# Altium schematic symbol library Interface_Expansion.SchLib: 67 symbols
Pins are listed as number, name and electrical type; pins without a type are passive.

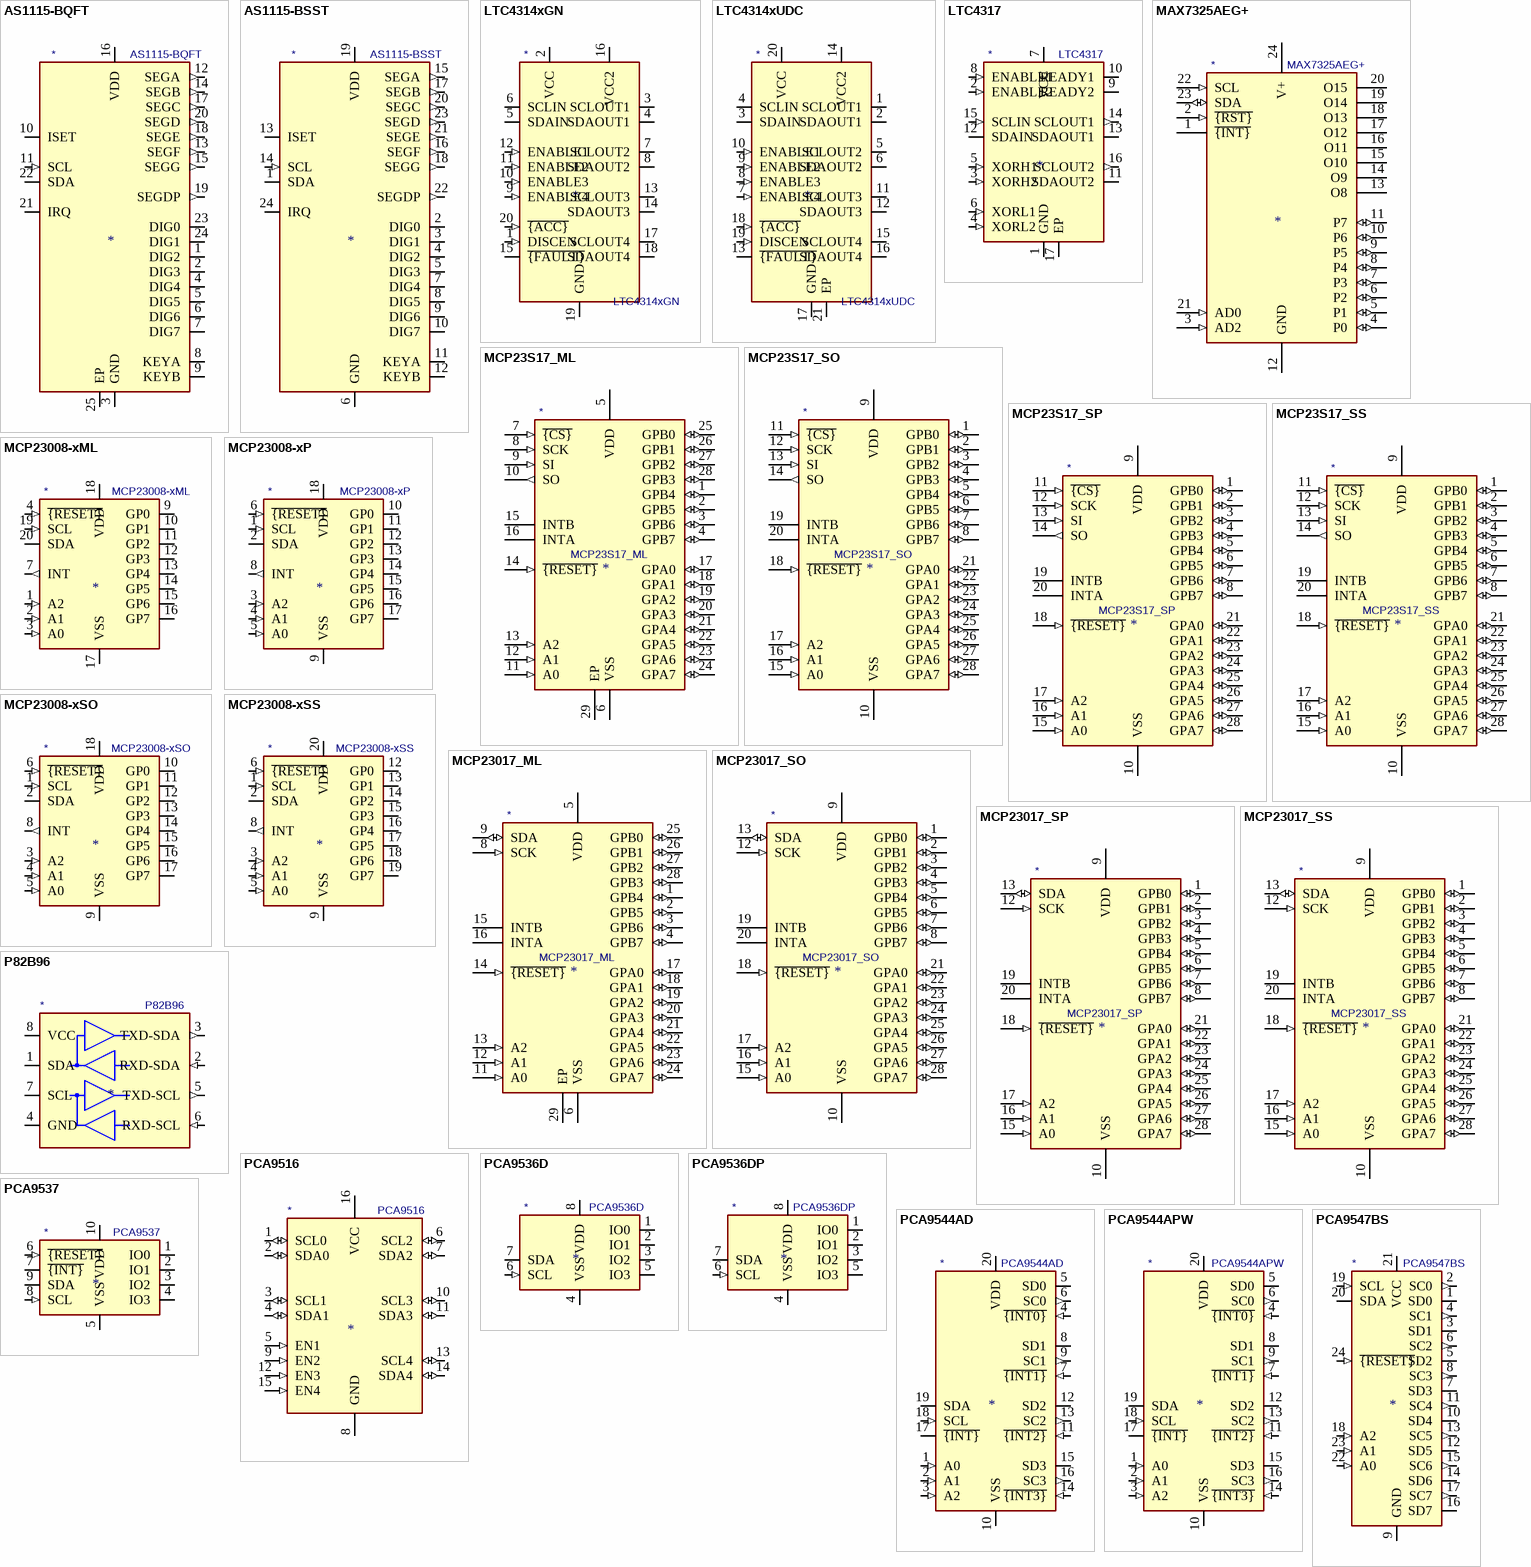
[diagram p0: symbols AS1115-BQFT to PCA9547BS]

## AS1115-BQFT
designator *  value AS1115-BQFT
ki_keywords: led driver i2c; ki_description: 64 LEDs, I2C Interfaced LED Driver with Keyscan, TQFN-24; ki_fp_filters: TQFN*1EP*4x4mm*P0.5mm*PullBack*; Footprint: Package_DFN_QFN:TQFN-24-1EP_4x4mm_P0.5mm_EP2.8x2.8mm_PullBack_ThermalVias; Supplier: https://ams.com/documents/20143/36005/AS1115_DS000206_1-00.pdf/3d3e6d35-b184-1329-adf9-2d769eb2404f
footprint TQFN-24-1EP_4x4mm_P0.5mm_EP2.8x2.8mm_PullBack_ThermalVias
pins: 1 DIG2 (oc), 2 DIG3 (oc), 3 GND (power), 4 DIG4 (oc), 5 DIG5 (oc), 6 DIG6 (oc), 7 DIG7 (oc), 8 KEYA (oc), 9 KEYB (oc), 10 ISET, 11 SCL (in), 12 SEGA (out), 13 SEGF (out), 14 SEGB (out), 15 SEGG (out), 16 VDD (power), 17 SEGC (out), 18 SEGE (out), 19 SEGDP (out), 20 SEGD (out), 21 IRQ (oc), 22 SDA (io), 23 DIG0 (oc), 24 DIG1 (oc), 25 EP

## AS1115-BSST
designator *  value AS1115-BSST
ki_keywords: led driver i2c; ki_description: 64 LEDs, I2C Interfaced LED Driver with Keyscan, QSOP-24; ki_fp_filters: QSOP*3.9x8.7m*P0.635mm*; Footprint: Package_SO:QSOP-24_3.9x8.7mm_P0.635mm; Supplier: https://ams.com/documents/20143/36005/AS1115_DS000206_1-00.pdf/3d3e6d35-b184-1329-adf9-2d769eb2404f
footprint QSOP-24_3.9x8.7mm_P0.635mm
pins: 1 SDA (io), 2 DIG0 (oc), 3 DIG1 (oc), 4 DIG2 (oc), 5 DIG3 (oc), 6 GND (power), 7 DIG4 (oc), 8 DIG5 (oc), 9 DIG6 (oc), 10 DIG7 (oc), 11 KEYA (oc), 12 KEYB (oc), 13 ISET, 14 SCL (in), 15 SEGA (out), 16 SEGF (out), 17 SEGB (out), 18 SEGG (out), 19 VDD (power), 20 SEGC (out), 21 SEGE (out), 22 SEGDP (out), 23 SEGD (out), 24 IRQ (oc)

## LTC4314xGN
designator *  value LTC4314xGN
ki_keywords: I2C Multiplexer Buffer Level Shifter; ki_description: Pin-Selectable, 4-Channel, 2-Wire Multiplexer with Bus Buffers, SSOP-20; ki_fp_filters: SSOP*3.9x8.7mm*P0.635mm*; Footprint: Package_SO:SSOP-20_3.9x8.7mm_P0.635mm; Supplier: https://www.analog.com/media/en/technical-documentation/data-sheets/4314f.pdf
footprint SSOP-20_3.9x8.7mm_P0.635mm
pins: 1 DISCEN (in), 2 VCC (power), 3 SCLOUT1 (io), 4 SDAOUT1 (io), 5 SDAIN (io), 6 SCLIN (io), 7 SCLOUT2 (io), 8 SDAOUT2 (io), 9 ENABLE4 (in), 10 ENABLE3 (in), 11 ENABLE2 (in), 12 ENABLE1 (in), 13 SCLOUT3 (io), 14 SDAOUT3 (io), 15 ~{{FAULT}} (oc), 16 VCC2 (power), 17 SCLOUT4 (io), 18 SDAOUT4 (io), 19 GND (power), 20 ~{{ACC}} (in)

## LTC4314xUDC
designator *  value LTC4314xUDC
ki_keywords: I2C Multiplexer Buffer Level Shifter; ki_description: Pin-Selectable, 4-Channel, 2-Wire Multiplexer with Bus Buffers, QFN-20; ki_fp_filters: QFN*1EP*3x4mm*P0.5mm*; Footprint: Package_DFN_QFN:QFN-20-1EP_3x4mm_P0.5mm_EP1.65x2.65mm; Supplier: https://www.analog.com/media/en/technical-documentation/data-sheets/4314f.pdf
footprint QFN-20-1EP_3x4mm_P0.5mm_EP1.65x2.65mm
pins: 1 SCLOUT1 (io), 2 SDAOUT1 (io), 3 SDAIN (io), 4 SCLIN (io), 5 SCLOUT2 (io), 6 SDAOUT2 (io), 7 ENABLE4 (in), 8 ENABLE3 (in), 9 ENABLE2 (in), 10 ENABLE1 (in), 11 SCLOUT3 (io), 12 SDAOUT3 (io), 13 ~{{FAULT}} (oc), 14 VCC2 (power), 15 SCLOUT4 (io), 16 SDAOUT4 (io), 17 GND (power), 18 ~{{ACC}} (in), 19 DISCEN (in), 20 VCC (power), 21 EP

## LTC4317
designator *  value LTC4317
ki_keywords: I2C Translator 4kV-ESD Level-Shifter Hot-Swap; ki_description: Dual I2C/SMBus Address-Translator, DFN-16; ki_fp_filters: DFN*1EP*3x5mm*P0.5mm*; Footprint: Package_DFN_QFN:DFN-16-1EP_3x5mm_P0.5mm_EP1.66x4.4mm; Supplier: https://www.analog.com/media/en/technical-documentation/data-sheets/4317fa.pdf
footprint DFN-16-1EP_3x5mm_P0.5mm_EP1.66x4.4mm
pins: 1 GND (power), 2 ENABLE2 (in), 3 XORH2 (in), 4 XORL2 (in), 5 XORH1 (in), 6 XORL1 (in), 7 VCC (power), 8 ENABLE1 (in), 9 READY2 (oc), 10 READY1 (oc), 11 SDAOUT2 (io), 12 SDAIN (io), 13 SDAOUT1 (io), 14 SCLOUT1 (out), 15 SCLIN (in), 16 SCLOUT2 (out), 17 EP

## MAX7325AEG+
designator *  value MAX7325AEG+
ki_keywords: Expander I2C Parallel Port GPIO Maxim; ki_description: I2C Port Expander with 8 Push-Pull and 8 Open-Drain I/Os, QSOP-24; ki_fp_filters: QSOP*3.9x8.7*P0.635mm*; Footprint: Package_SO:QSOP-24_3.9x8.7mm_P0.635mm; Supplier: https://datasheets.maximintegrated.com/en/ds/MAX7325.pdf
footprint QSOP-24_3.9x8.7mm_P0.635mm
pins: 1 ~{{INT}} (oc), 2 ~{{RST}} (in), 3 AD2 (in), 4 P0 (io), 5 P1 (io), 6 P2 (io), 7 P3 (io), 8 P4 (io), 9 P5 (io), 10 P6 (io), 11 P7 (io), 12 GND (power), 13 O8 (oc), 14 O9 (oc), 15 O10 (oc), 16 O11 (oc), 17 O12 (oc), 18 O13 (oc), 19 O14 (oc), 20 O15 (oc), 21 AD0 (in), 22 SCL (in), 23 SDA (io), 24 V+ (power)

## MCP23S17_ML
designator *  value MCP23S17_ML
ki_keywords: SPI parallel port expander; ki_description: 16-bit I/O expander, SPI, interrupts, w pull-ups, QFN-28; ki_fp_filters: QFN*6x6mm*P0.65mm*; Footprint: Package_DFN_QFN:QFN-28-1EP_6x6mm_P0.65mm_EP4.25x4.25mm; Supplier: http://ww1.microchip.com/downloads/en/DeviceDoc/20001952C.pdf
footprint QFN-28-1EP_6x6mm_P0.65mm_EP4.25x4.25mm
pins: 1 GPB4 (io), 2 GPB5 (io), 3 GPB6 (io), 4 GPB7 (io), 5 VDD (power), 6 VSS (power), 7 ~{{CS}} (in), 8 SCK (in), 9 SI (in), 10 SO (out), 11 A0 (in), 12 A1 (in), 13 A2 (in), 14 ~{{RESET}} (in), 15 INTB (hiz), 16 INTA (hiz), 17 GPA0 (io), 18 GPA1 (io), 19 GPA2 (io), 20 GPA3 (io), 21 GPA4 (io), 22 GPA5 (io), 23 GPA6 (io), 24 GPA7 (io), 25 GPB0 (io), 26 GPB1 (io), 27 GPB2 (io), 28 GPB3 (io), 29 EP

## MCP23S17_SO
designator *  value MCP23S17_SO
ki_keywords: SPI parallel port expander; ki_description: 16-bit I/O expander, SPI, interrupts, w pull-ups, SOIC-28; ki_fp_filters: SOIC*7.5x17.9mm*P1.27mm*; Footprint: Package_SO:SOIC-28W_7.5x17.9mm_P1.27mm; Supplier: http://ww1.microchip.com/downloads/en/DeviceDoc/20001952C.pdf
footprint SOIC-28W_7.5x17.9mm_P1.27mm
pins: 1 GPB0 (io), 2 GPB1 (io), 3 GPB2 (io), 4 GPB3 (io), 5 GPB4 (io), 6 GPB5 (io), 7 GPB6 (io), 8 GPB7 (io), 9 VDD (power), 10 VSS (power), 11 ~{{CS}} (in), 12 SCK (in), 13 SI (in), 14 SO (out), 15 A0 (in), 16 A1 (in), 17 A2 (in), 18 ~{{RESET}} (in), 19 INTB (hiz), 20 INTA (hiz), 21 GPA0 (io), 22 GPA1 (io), 23 GPA2 (io), 24 GPA3 (io), 25 GPA4 (io), 26 GPA5 (io), 27 GPA6 (io), 28 GPA7 (io)

## MCP23S17_SP
designator *  value MCP23S17_SP
ki_keywords: microchip i2c parallel port expander; ki_description: 16-bit I/O expander, SPI, interrupts, w pull-ups, SPDIP-28; ki_fp_filters: DIP*W7.62mm*; Footprint: Package_DIP:DIP-28_W7.62mm; Supplier: http://ww1.microchip.com/downloads/en/DeviceDoc/20001952C.pdf
footprint DIP-28_W7.62mm
pins: 1 GPB0 (io), 2 GPB1 (io), 3 GPB2 (io), 4 GPB3 (io), 5 GPB4 (io), 6 GPB5 (io), 7 GPB6 (io), 8 GPB7 (io), 9 VDD (power), 10 VSS (power), 11 ~{{CS}} (in), 12 SCK (in), 13 SI (in), 14 SO (out), 15 A0 (in), 16 A1 (in), 17 A2 (in), 18 ~{{RESET}} (in), 19 INTB (hiz), 20 INTA (hiz), 21 GPA0 (io), 22 GPA1 (io), 23 GPA2 (io), 24 GPA3 (io), 25 GPA4 (io), 26 GPA5 (io), 27 GPA6 (io), 28 GPA7 (io)

## MCP23S17_SS
designator *  value MCP23S17_SS
ki_keywords: SPI parallel port expander; ki_description: 16-bit I/O expander, I2C, interrupts, w pull-ups, SSOP-28; ki_fp_filters: SSOP*5.3x10.2mm*P0.65mm*; Footprint: Package_SO:SSOP-28_5.3x10.2mm_P0.65mm; Supplier: http://ww1.microchip.com/downloads/en/DeviceDoc/20001952C.pdf
footprint SSOP-28_5.3x10.2mm_P0.65mm
pins: 1 GPB0 (io), 2 GPB1 (io), 3 GPB2 (io), 4 GPB3 (io), 5 GPB4 (io), 6 GPB5 (io), 7 GPB6 (io), 8 GPB7 (io), 9 VDD (power), 10 VSS (power), 11 ~{{CS}} (in), 12 SCK (in), 13 SI (in), 14 SO (out), 15 A0 (in), 16 A1 (in), 17 A2 (in), 18 ~{{RESET}} (in), 19 INTB (hiz), 20 INTA (hiz), 21 GPA0 (io), 22 GPA1 (io), 23 GPA2 (io), 24 GPA3 (io), 25 GPA4 (io), 26 GPA5 (io), 27 GPA6 (io), 28 GPA7 (io)

## MCP23008-xML
designator *  value MCP23008-xML
ki_keywords: I2C parallel port expander; ki_description: 8-bit I/O expander, I2C, interrupts, QFN-20; ki_fp_filters: QFN*4x4mm*P0.5mm*; Footprint: Package_DFN_QFN:QFN-20-1EP_4x4mm_P0.5mm_EP2.7x2.7mm; Supplier: http://ww1.microchip.com/downloads/en/DeviceDoc/MCP23008-MCP23S08-Data-Sheet-20001919F.pdf
footprint QFN-20-1EP_4x4mm_P0.5mm_EP2.7x2.7mm
pins: 1 A2 (in), 2 A1 (in), 3 A0 (in), 4 ~{{RESET}} (in), 5 NC (in) hidden, 6 NC (in) hidden, 7 INT (out), 8 NC (in) hidden, 9 GP0 (io), 10 GP1 (io), 11 GP2 (io), 12 GP3 (io), 13 GP4 (io), 14 GP5 (io), 15 GP6 (io), 16 GP7 (io), 17 VSS (power), 18 VDD (power), 19 SCL (in), 20 SDA (io)

## MCP23008-xP
designator *  value MCP23008-xP
ki_keywords: I2C parallel port expander; ki_description: 8-bit I/O expander, I2C, interrupts, PDIP-18; ki_fp_filters: DIP*W7.62mm*; Footprint: Package_DIP:DIP-18_W7.62mm; Supplier: http://ww1.microchip.com/downloads/en/DeviceDoc/MCP23008-MCP23S08-Data-Sheet-20001919F.pdf
footprint DIP-18_W7.62mm
pins: 1 SCL (in), 2 SDA (io), 3 A2 (in), 4 A1 (in), 5 A0 (in), 6 ~{{RESET}} (in), 7 NC (in) hidden, 8 INT (out), 9 VSS (power), 10 GP0 (io), 11 GP1 (io), 12 GP2 (io), 13 GP3 (io), 14 GP4 (io), 15 GP5 (io), 16 GP6 (io), 17 GP7 (io), 18 VDD (power)

## MCP23008-xSO
designator *  value MCP23008-xSO
ki_keywords: I2C parallel port expander; ki_description: 8-bit I/O expander, I2C, interrupts, SOIC-18; ki_fp_filters: SOIC*7.5x11.6mm*P1.27mm*; Footprint: Package_SO:SOIC-18W_7.5x11.6mm_P1.27mm; Supplier: http://ww1.microchip.com/downloads/en/DeviceDoc/MCP23008-MCP23S08-Data-Sheet-20001919F.pdf
footprint SOIC-18W_7.5x11.6mm_P1.27mm
pins: 1 SCL (in), 2 SDA (io), 3 A2 (in), 4 A1 (in), 5 A0 (in), 6 ~{{RESET}} (in), 7 NC (in) hidden, 8 INT (out), 9 VSS (power), 10 GP0 (io), 11 GP1 (io), 12 GP2 (io), 13 GP3 (io), 14 GP4 (io), 15 GP5 (io), 16 GP6 (io), 17 GP7 (io), 18 VDD (power)

## MCP23008-xSS
designator *  value MCP23008-xSS
ki_keywords: I2C parallel port expander; ki_description: 8-bit I/O expander, I2C, interrupts, SSOP-20; ki_fp_filters: SSOP*5.3x7.2mm*P0.65mm*; Footprint: Package_SO:SSOP-20_5.3x7.2mm_P0.65mm; Supplier: http://ww1.microchip.com/downloads/en/DeviceDoc/MCP23008-MCP23S08-Data-Sheet-20001919F.pdf
footprint SSOP-20_5.3x7.2mm_P0.65mm
pins: 1 SCL (in), 2 SDA (io), 3 A2 (in), 4 A1 (in), 5 A0 (in), 6 ~{{RESET}} (in), 7 NC (in) hidden, 8 INT (out), 9 VSS (power), 10 NC (in) hidden, 11 NC (in) hidden, 12 GP0 (io), 13 GP1 (io), 14 GP2 (io), 15 GP3 (io), 16 GP4 (io), 17 GP5 (io), 18 GP6 (io), 19 GP7 (io), 20 VDD (power)

## MCP23017_ML
designator *  value MCP23017_ML
ki_keywords: I2C parallel port expander; ki_description: 16-bit I/O expander, I2C, interrupts, w pull-ups, QFN-28; ki_fp_filters: QFN*6x6mm*P0.65mm*; Footprint: Package_DFN_QFN:QFN-28-1EP_6x6mm_P0.65mm_EP4.25x4.25mm; Supplier: http://ww1.microchip.com/downloads/en/DeviceDoc/20001952C.pdf
footprint QFN-28-1EP_6x6mm_P0.65mm_EP4.25x4.25mm
pins: 1 GPB4 (io), 2 GPB5 (io), 3 GPB6 (io), 4 GPB7 (io), 5 VDD (power), 6 VSS (power), 7 NC (in) hidden, 8 SCK (in), 9 SDA (io), 10 NC (in) hidden, 11 A0 (in), 12 A1 (in), 13 A2 (in), 14 ~{{RESET}} (in), 15 INTB (hiz), 16 INTA (hiz), 17 GPA0 (io), 18 GPA1 (io), 19 GPA2 (io), 20 GPA3 (io), 21 GPA4 (io), 22 GPA5 (io), 23 GPA6 (io), 24 GPA7 (io), 25 GPB0 (io), 26 GPB1 (io), 27 GPB2 (io), 28 GPB3 (io), 29 EP

## MCP23017_SO
designator *  value MCP23017_SO
ki_keywords: I2C parallel port expander; ki_description: 16-bit I/O expander, I2C, interrupts, w pull-ups, SOIC-28; ki_fp_filters: SOIC*7.5x17.9mm*P1.27mm*; Footprint: Package_SO:SOIC-28W_7.5x17.9mm_P1.27mm; Supplier: http://ww1.microchip.com/downloads/en/DeviceDoc/20001952C.pdf
footprint SOIC-28W_7.5x17.9mm_P1.27mm
pins: 1 GPB0 (io), 2 GPB1 (io), 3 GPB2 (io), 4 GPB3 (io), 5 GPB4 (io), 6 GPB5 (io), 7 GPB6 (io), 8 GPB7 (io), 9 VDD (power), 10 VSS (power), 11 NC (in) hidden, 12 SCK (in), 13 SDA (io), 14 NC (in) hidden, 15 A0 (in), 16 A1 (in), 17 A2 (in), 18 ~{{RESET}} (in), 19 INTB (hiz), 20 INTA (hiz), 21 GPA0 (io), 22 GPA1 (io), 23 GPA2 (io), 24 GPA3 (io), 25 GPA4 (io), 26 GPA5 (io), 27 GPA6 (io), 28 GPA7 (io)

## MCP23017_SP
designator *  value MCP23017_SP
ki_keywords: I2C parallel port expander; ki_description: 16-bit I/O expander, I2C, interrupts, w pull-ups, SPDIP-28; ki_fp_filters: DIP*W7.62mm*; Footprint: Package_DIP:DIP-28_W7.62mm; Supplier: http://ww1.microchip.com/downloads/en/DeviceDoc/20001952C.pdf
footprint DIP-28_W7.62mm
pins: 1 GPB0 (io), 2 GPB1 (io), 3 GPB2 (io), 4 GPB3 (io), 5 GPB4 (io), 6 GPB5 (io), 7 GPB6 (io), 8 GPB7 (io), 9 VDD (power), 10 VSS (power), 11 NC (in) hidden, 12 SCK (in), 13 SDA (io), 14 NC (in) hidden, 15 A0 (in), 16 A1 (in), 17 A2 (in), 18 ~{{RESET}} (in), 19 INTB (hiz), 20 INTA (hiz), 21 GPA0 (io), 22 GPA1 (io), 23 GPA2 (io), 24 GPA3 (io), 25 GPA4 (io), 26 GPA5 (io), 27 GPA6 (io), 28 GPA7 (io)

## MCP23017_SS
designator *  value MCP23017_SS
ki_keywords: I2C parallel port expander; ki_description: 16-bit I/O expander, I2C, interrupts, w pull-ups, SSOP-28; ki_fp_filters: SSOP*5.3x10.2mm*P0.65mm*; Footprint: Package_SO:SSOP-28_5.3x10.2mm_P0.65mm; Supplier: http://ww1.microchip.com/downloads/en/DeviceDoc/20001952C.pdf
footprint SSOP-28_5.3x10.2mm_P0.65mm
pins: 1 GPB0 (io), 2 GPB1 (io), 3 GPB2 (io), 4 GPB3 (io), 5 GPB4 (io), 6 GPB5 (io), 7 GPB6 (io), 8 GPB7 (io), 9 VDD (power), 10 VSS (power), 11 NC (in) hidden, 12 SCK (in), 13 SDA (io), 14 NC (in) hidden, 15 A0 (in), 16 A1 (in), 17 A2 (in), 18 ~{{RESET}} (in), 19 INTB (hiz), 20 INTA (hiz), 21 GPA0 (io), 22 GPA1 (io), 23 GPA2 (io), 24 GPA3 (io), 25 GPA4 (io), 26 GPA5 (io), 27 GPA6 (io), 28 GPA7 (io)

## P82B96
designator *  value P82B96
ki_keywords: I2C Bus Buffer; ki_description: Dual I2C Bus Buffer, DIP8/SO8/TSSOP8; ki_fp_filters: DIP* PDIP* SOIC* SO* TSSOP*; Supplier: http://www.nxp.com/documents/data_sheet/P82B96.pdf
pins: 1 SDA (io), 2 RXD-SDA (in), 3 TXD-SDA (out), 4 GND (power), 5 TXD-SCL (out), 6 RXD-SCL (in), 7 SCL (io), 8 VCC (power)

## PCA9516
designator *  value PCA9516
ki_keywords: I2C Hub; ki_description: 5 channels I2C Hub, SO/TSSOP16; ki_fp_filters: SO* SOIC* TSSOP*; Supplier: http://www.nxp.com/documents/data_sheet/PCA9518.pdf
pins: 1 SCL0 (io), 2 SDA0 (io), 3 SCL1 (io), 4 SDA1 (io), 5 EN1 (in), 6 SCL2 (io), 7 SDA2 (io), 8 GND (power), 9 EN2 (in), 10 SCL3 (io), 11 SDA3 (io), 12 EN3 (in), 13 SCL4 (io), 14 SDA4 (io), 15 EN4 (in), 16 VCC (power)

## PCA9536D
designator *  value PCA9536D
ki_keywords: i2c io port; ki_description: 4-bit I2C-bus and SMBus IO port, SOIC-8; ki_fp_filters: SOIC*3.9x4.9mm*P1.27mm*; Footprint: Package_SO:SOIC-8_3.9x4.9mm_P1.27mm; Supplier: http://www.nxp.com/documents/data_sheet/PCA9536.pdf
footprint SOIC-8_3.9x4.9mm_P1.27mm
pins: 1 IO0 (io), 2 IO1 (io), 3 IO2 (io), 4 VSS (power), 5 IO3 (io), 6 SCL (in), 7 SDA (io), 8 VDD (power)

## PCA9536DP
designator *  value PCA9536DP
ki_keywords: i2c io port; ki_description: 4-bit I2C-bus and SMBus IO port, TSSOP-8; ki_fp_filters: TSSOP*3x3mm*P0.65mm*; Footprint: Package_SO:TSSOP-8_3x3mm_P0.65mm; Supplier: http://www.nxp.com/documents/data_sheet/PCA9536.pdf
footprint TSSOP-8_3x3mm_P0.65mm
pins: 1 IO0 (io), 2 IO1 (io), 3 IO2 (io), 4 VSS (power), 5 IO3 (io), 6 SCL (in), 7 SDA (io), 8 VDD (power)

## PCA9537
designator *  value PCA9537
ki_keywords: i2c io port; ki_description: 4-bit I2C-bus and SMBus IO port with interrupt and reset, TSSOP-10; ki_fp_filters: TSSOP*3x3mm*P0.5mm*; Footprint: Package_SO:TSSOP-10_3x3mm_P0.5mm; Supplier: https://www.nxp.com/docs/en/data-sheet/PCA9537.pdf
footprint TSSOP-10_3x3mm_P0.5mm
pins: 1 IO0 (io), 2 IO1 (io), 3 IO2 (io), 4 IO3 (io), 5 VSS (power), 6 ~{{RESET}} (in), 7 ~{{INT}} (oc), 8 SCL (in), 9 SDA (io), 10 VDD (power)

## PCA9544AD
designator *  value PCA9544AD
ki_keywords: i2c multiplexer; ki_description: 4-channel I2C-bus multiplexer with interrupt logic, SOIC-20; ki_fp_filters: SOIC*7.5x12.8mm*P1.27mm*; Footprint: Package_SO:SOIC-20W_7.5x12.8mm_P1.27mm; Supplier: http://www.nxp.com/documents/data_sheet/PCA9544A.pdf
footprint SOIC-20W_7.5x12.8mm_P1.27mm
pins: 1 A0 (in), 2 A1 (in), 3 A2 (in), 4 ~{{INT0}} (in), 5 SD0 (io), 6 SC0 (out), 7 ~{{INT1}} (in), 8 SD1 (io), 9 SC1 (out), 10 VSS (power), 11 ~{{INT2}} (in), 12 SD2 (io), 13 SC2 (out), 14 ~{{INT3}} (in), 15 SD3 (io), 16 SC3 (out), 17 ~{{INT}} (oc), 18 SCL (in), 19 SDA (io), 20 VDD (power)

## PCA9544APW
designator *  value PCA9544APW
ki_keywords: i2c multiplexer; ki_description: 4-channel I2C-bus multiplexer with interrupt logic, TSSOP-20; ki_fp_filters: TSSOP*4.4x6.5mm*P0.65mm*; Footprint: Package_SO:TSSOP-20_4.4x6.5mm_P0.65mm; Supplier: http://www.nxp.com/documents/data_sheet/PCA9544A.pdf
footprint TSSOP-20_4.4x6.5mm_P0.65mm
pins: 1 A0 (in), 2 A1 (in), 3 A2 (in), 4 ~{{INT0}} (in), 5 SD0 (io), 6 SC0 (out), 7 ~{{INT1}} (in), 8 SD1 (io), 9 SC1 (out), 10 VSS (power), 11 ~{{INT2}} (in), 12 SD2 (io), 13 SC2 (out), 14 ~{{INT3}} (in), 15 SD3 (io), 16 SC3 (out), 17 ~{{INT}} (oc), 18 SCL (in), 19 SDA (io), 20 VDD (power)

## PCA9547BS
designator *  value PCA9547BS
ki_keywords: Low voltage 8-channel I2C switch with reset; ki_description: Low voltage 8-channel I2C switch with reset, HVQFN-24; ki_fp_filters: HVQFN*4x4mm*P0.5mm*; Footprint: Package_DFN_QFN:HVQFN-24-1EP_4x4mm_P0.5mm_EP2.1x2.1mm; Supplier: https://www.nxp.com/docs/en/data-sheet/PCA9547.pdf
footprint HVQFN-24-1EP_4x4mm_P0.5mm_EP2.1x2.1mm
pins: 1 SD0 (io), 2 SC0 (out), 3 SD1 (io), 4 SC1 (out), 5 SD2 (io), 6 SC2 (out), 7 SD3 (io), 8 SC3 (out), 9 GND (power), 10 SD4 (io), 11 SC4 (out), 12 SD5 (io), 13 SC5 (out), 14 SD6 (io), 15 SC6 (out), 16 SD7 (io), 17 SC7 (out), 18 A2 (in), 19 SCL (in), 20 SDA (io), 21 VCC (power), 22 A0 (in), 23 A1 (in), 24 ~{{RESET}} (in), 25 GND hidden

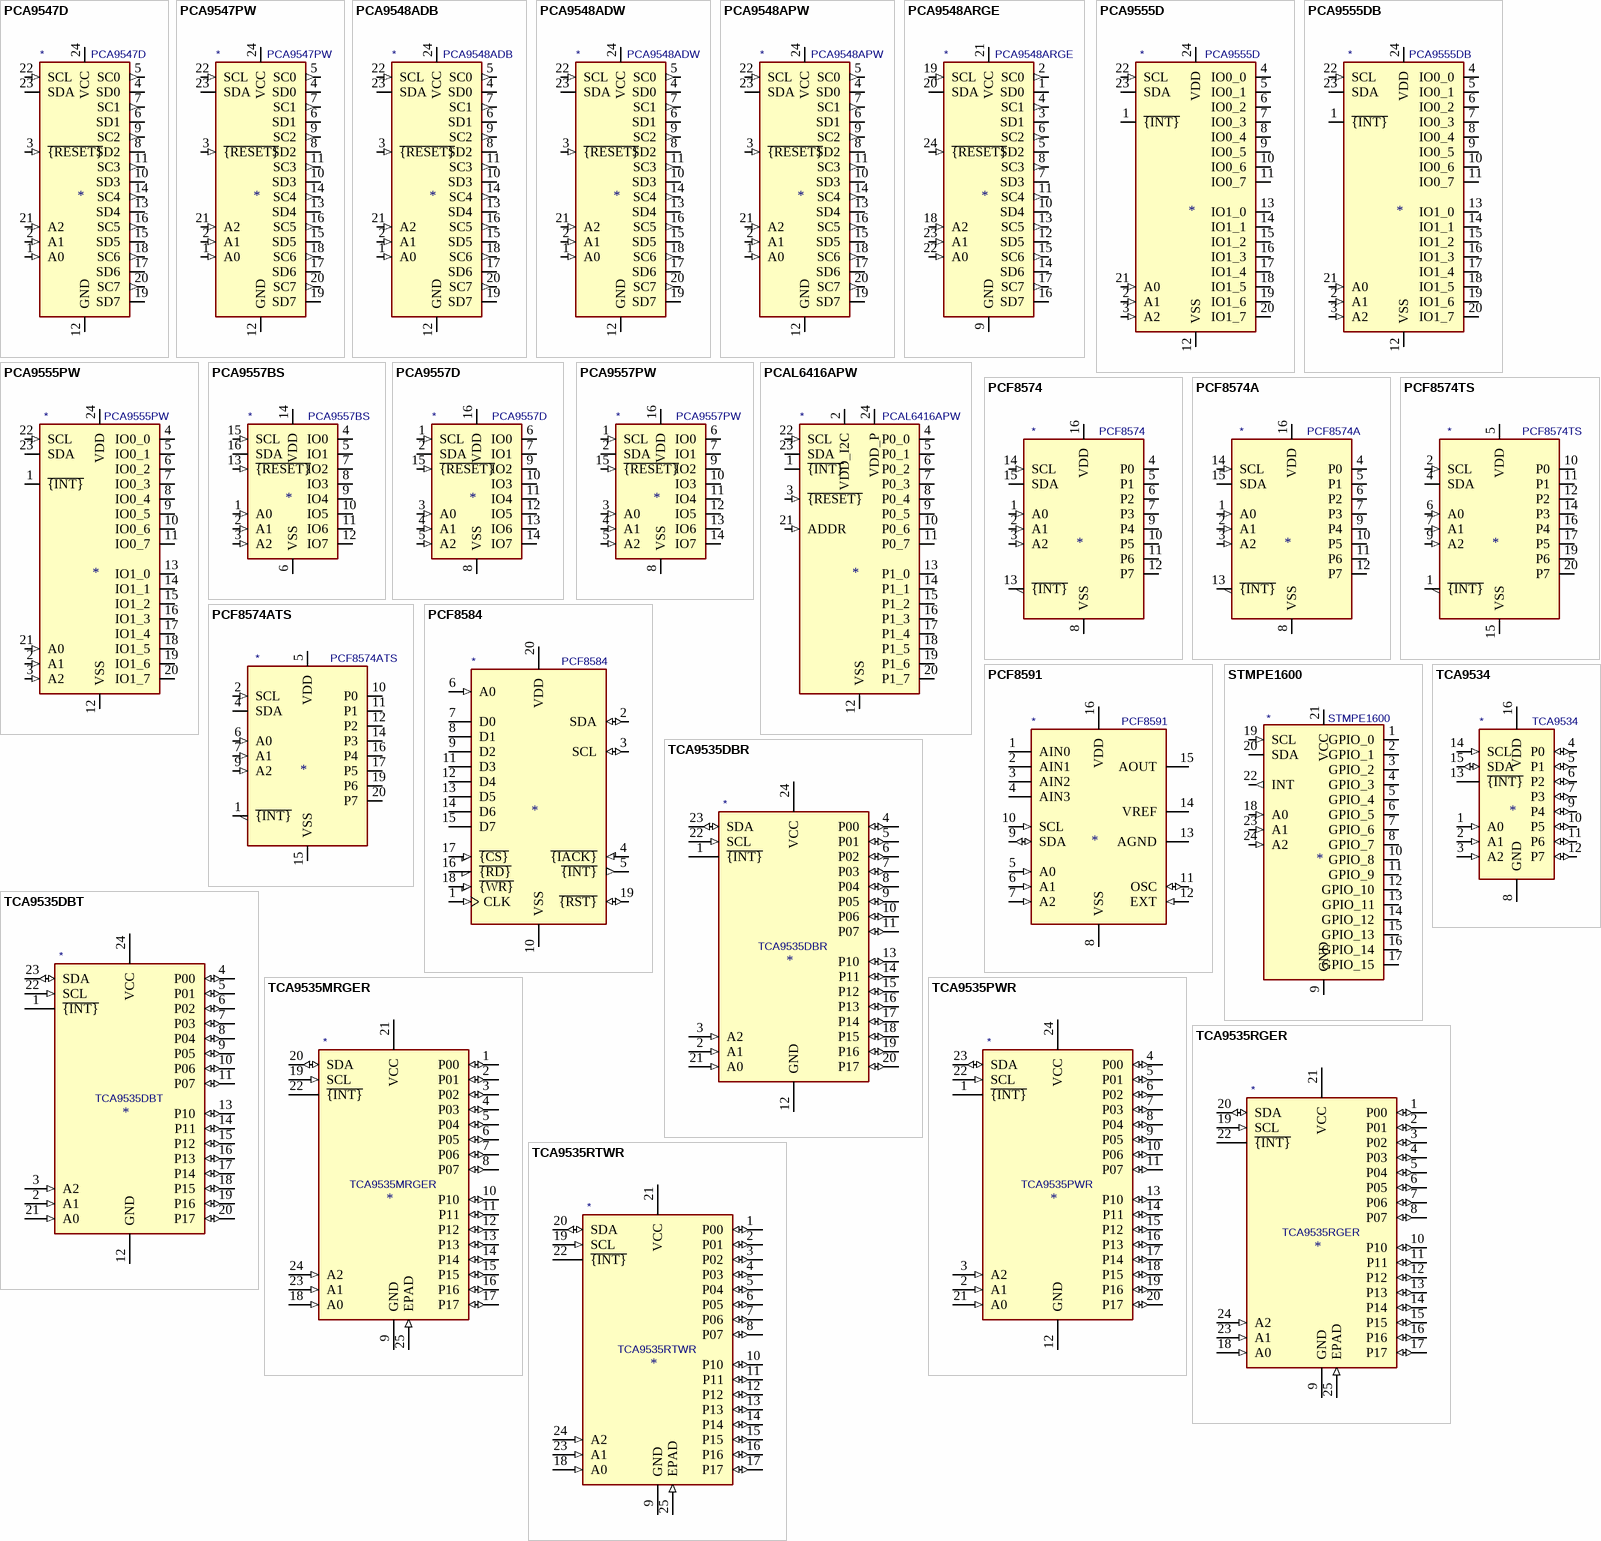
[diagram p1: symbols PCA9547D to TCA9535RTWR]

## PCA9547D
designator *  value PCA9547D
ki_keywords: Low voltage 8-channel I2C switch with reset; ki_description: Low voltage 8-channel I2C switch with reset, SO-24; ki_fp_filters: SOIC*7.5x15.4mm*P1.27mm*; Footprint: Package_SO:SOIC-24W_7.5x15.4mm_P1.27mm; Supplier: https://www.nxp.com/docs/en/data-sheet/PCA9547.pdf
footprint SOIC-24W_7.5x15.4mm_P1.27mm
pins: 1 A0 (in), 2 A1 (in), 3 ~{{RESET}} (in), 4 SD0 (io), 5 SC0 (out), 6 SD1 (io), 7 SC1 (out), 8 SD2 (io), 9 SC2 (out), 10 SD3 (io), 11 SC3 (out), 12 GND (power), 13 SD4 (io), 14 SC4 (out), 15 SD5 (io), 16 SC5 (out), 17 SD6 (io), 18 SC6 (out), 19 SD7 (io), 20 SC7 (out), 21 A2 (in), 22 SCL (in), 23 SDA (io), 24 VCC (power)

## PCA9547PW
designator *  value PCA9547PW
ki_keywords: Low voltage 8-channel I2C switch with reset; ki_description: Low voltage 8-channel I2C switch with reset, TSSOP-24; ki_fp_filters: TSSOP*4.4x7.8mm*P0.65mm*; Footprint: Package_SO:TSSOP-24_4.4x7.8mm_P0.65mm; Supplier: https://www.nxp.com/docs/en/data-sheet/PCA9547.pdf
footprint TSSOP-24_4.4x7.8mm_P0.65mm
pins: 1 A0 (in), 2 A1 (in), 3 ~{{RESET}} (in), 4 SD0 (io), 5 SC0 (out), 6 SD1 (io), 7 SC1 (out), 8 SD2 (io), 9 SC2 (out), 10 SD3 (io), 11 SC3 (out), 12 GND (power), 13 SD4 (io), 14 SC4 (out), 15 SD5 (io), 16 SC5 (out), 17 SD6 (io), 18 SC6 (out), 19 SD7 (io), 20 SC7 (out), 21 A2 (in), 22 SCL (in), 23 SDA (io), 24 VCC (power)

## PCA9548ADB
designator *  value PCA9548ADB
ki_keywords: Low voltage 8-channel I2C switch with reset; ki_description: Low voltage 8-channel I2C switch with reset, SSOP-24; ki_fp_filters: SSOP*5.3x8.2mm*P0.65mm*; Footprint: Package_SO:SSOP-24_5.3x8.2mm_P0.65mm; Supplier: http://www.ti.com/lit/ds/symlink/pca9548a.pdf
footprint SSOP-24_5.3x8.2mm_P0.65mm
pins: 1 A0 (in), 2 A1 (in), 3 ~{{RESET}} (in), 4 SD0 (io), 5 SC0 (out), 6 SD1 (io), 7 SC1 (out), 8 SD2 (io), 9 SC2 (out), 10 SD3 (io), 11 SC3 (out), 12 GND (power), 13 SD4 (io), 14 SC4 (out), 15 SD5 (io), 16 SC5 (out), 17 SD6 (io), 18 SC6 (out), 19 SD7 (io), 20 SC7 (out), 21 A2 (in), 22 SCL (in), 23 SDA (io), 24 VCC (power)

## PCA9548ADW
designator *  value PCA9548ADW
ki_keywords: Low voltage 8-channel I2C switch with reset; ki_description: Low voltage 8-channel I2C switch with reset, SOIC-24; ki_fp_filters: SOIC*7.5x15.4mm*P1.27mm*; Footprint: Package_SO:SOIC-24W_7.5x15.4mm_P1.27mm; Supplier: http://www.ti.com/lit/ds/symlink/pca9548a.pdf
footprint SOIC-24W_7.5x15.4mm_P1.27mm
pins: 1 A0 (in), 2 A1 (in), 3 ~{{RESET}} (in), 4 SD0 (io), 5 SC0 (out), 6 SD1 (io), 7 SC1 (out), 8 SD2 (io), 9 SC2 (out), 10 SD3 (io), 11 SC3 (out), 12 GND (power), 13 SD4 (io), 14 SC4 (out), 15 SD5 (io), 16 SC5 (out), 17 SD6 (io), 18 SC6 (out), 19 SD7 (io), 20 SC7 (out), 21 A2 (in), 22 SCL (in), 23 SDA (io), 24 VCC (power)

## PCA9548APW
designator *  value PCA9548APW
ki_keywords: Low voltage 8-channel I2C switch with reset; ki_description: Low voltage 8-channel I2C switch with reset, TSSOP-24; ki_fp_filters: TSSOP*4.4x7.8mm*P0.65mm*; Footprint: Package_SO:TSSOP-24_4.4x7.8mm_P0.65mm; Supplier: http://www.ti.com/lit/ds/symlink/pca9548a.pdf
footprint TSSOP-24_4.4x7.8mm_P0.65mm
pins: 1 A0 (in), 2 A1 (in), 3 ~{{RESET}} (in), 4 SD0 (io), 5 SC0 (out), 6 SD1 (io), 7 SC1 (out), 8 SD2 (io), 9 SC2 (out), 10 SD3 (io), 11 SC3 (out), 12 GND (power), 13 SD4 (io), 14 SC4 (out), 15 SD5 (io), 16 SC5 (out), 17 SD6 (io), 18 SC6 (out), 19 SD7 (io), 20 SC7 (out), 21 A2 (in), 22 SCL (in), 23 SDA (io), 24 VCC (power)

## PCA9548ARGE
designator *  value PCA9548ARGE
ki_keywords: Low voltage 8-channel I2C switch with reset; ki_description: Low voltage 8-channel I2C switch with reset, VQFN-24; ki_fp_filters: Texas*RGE0024C*; Footprint: Package_DFN_QFN:Texas_RGE0024C_EP2.1x2.1mm; Supplier: http://www.ti.com/lit/ds/symlink/pca9548a.pdf
footprint Texas_RGE0024C_EP2.1x2.1mm
pins: 1 SD0 (io), 2 SC0 (out), 3 SD1 (io), 4 SC1 (out), 5 SD2 (io), 6 SC2 (out), 7 SD3 (io), 8 SC3 (out), 9 GND (power), 10 SD4 (io), 11 SC4 (out), 12 SD5 (io), 13 SC5 (out), 14 SD6 (io), 15 SC6 (out), 16 SD7 (io), 17 SC7 (out), 18 A2 (in), 19 SCL (in), 20 SDA (io), 21 VCC (power), 22 A0 (in), 23 A1 (in), 24 ~{{RESET}} (in), 25 1EP (in) hidden

## PCA9555D
designator *  value PCA9555D
ki_keywords: I2C TWI IO expander; ki_description: IO expander 16 GPIO, I2C 400kHz, Interrupt, 2.3 - 5.5V, SOIC-24; ki_fp_filters: SOIC*7.5x15.4mm*P1.27mm*; Footprint: Package_SO:SOIC-24W_7.5x15.4mm_P1.27mm; Supplier: https://www.nxp.com/docs/en/data-sheet/PCA9555.pdf
footprint SOIC-24W_7.5x15.4mm_P1.27mm
pins: 1 ~{{INT}} (oc), 2 A1 (in), 3 A2 (in), 4 IO0_0 (io), 5 IO0_1 (io), 6 IO0_2 (io), 7 IO0_3 (io), 8 IO0_4 (io), 9 IO0_5 (io), 10 IO0_6 (io), 11 IO0_7 (io), 12 VSS (power), 13 IO1_0 (io), 14 IO1_1 (io), 15 IO1_2 (io), 16 IO1_3 (io), 17 IO1_4 (io), 18 IO1_5 (io), 19 IO1_6 (io), 20 IO1_7 (io), 21 A0 (in), 22 SCL (in), 23 SDA (io), 24 VDD (power)

## PCA9555DB
designator *  value PCA9555DB
ki_keywords: I2C TWI IO expander; ki_description: IO expander 16 GPIO, I2C 400kHz, Interrupt, 2.3 - 5.5V, SSOP-24; ki_fp_filters: SSOP*5.3x8.2mm*P0.65mm*; Footprint: Package_SO:SSOP-24_5.3x8.2mm_P0.65mm; Supplier: https://www.nxp.com/docs/en/data-sheet/PCA9555.pdf
footprint SSOP-24_5.3x8.2mm_P0.65mm
pins: 1 ~{{INT}} (oc), 2 A1 (in), 3 A2 (in), 4 IO0_0 (io), 5 IO0_1 (io), 6 IO0_2 (io), 7 IO0_3 (io), 8 IO0_4 (io), 9 IO0_5 (io), 10 IO0_6 (io), 11 IO0_7 (io), 12 VSS (power), 13 IO1_0 (io), 14 IO1_1 (io), 15 IO1_2 (io), 16 IO1_3 (io), 17 IO1_4 (io), 18 IO1_5 (io), 19 IO1_6 (io), 20 IO1_7 (io), 21 A0 (in), 22 SCL (in), 23 SDA (io), 24 VDD (power)

## PCA9555PW
designator *  value PCA9555PW
ki_keywords: I2C TWI IO expander; ki_description: IO expander 16 GPIO, I2C 400kHz, Interrupt, 2.3 - 5.5V, TSSOP-24; ki_fp_filters: TSSOP*4.4x7.8mm*P0.65mm*; Footprint: Package_SO:TSSOP-24_4.4x7.8mm_P0.65mm; Supplier: https://www.nxp.com/docs/en/data-sheet/PCA9555.pdf
footprint TSSOP-24_4.4x7.8mm_P0.65mm
pins: 1 ~{{INT}} (oc), 2 A1 (in), 3 A2 (in), 4 IO0_0 (io), 5 IO0_1 (io), 6 IO0_2 (io), 7 IO0_3 (io), 8 IO0_4 (io), 9 IO0_5 (io), 10 IO0_6 (io), 11 IO0_7 (io), 12 VSS (power), 13 IO1_0 (io), 14 IO1_1 (io), 15 IO1_2 (io), 16 IO1_3 (io), 17 IO1_4 (io), 18 IO1_5 (io), 19 IO1_6 (io), 20 IO1_7 (io), 21 A0 (in), 22 SCL (in), 23 SDA (io), 24 VDD (power)

## PCA9557BS
designator *  value PCA9557BS
ki_keywords: SMBUS I2C Expander; ki_description: 8-bit I2C-bus and SMBus I/O port with reset, HVQFN-16; ki_fp_filters: HVQFN*1EP*3x3mm*P0.5mm*; Footprint: Package_DFN_QFN:HVQFN-16-1EP_3x3mm_P0.5mm_EP1.5x1.5mm; Supplier: https://www.nxp.com/docs/en/data-sheet/PCA9557.pdf
footprint HVQFN-16-1EP_3x3mm_P0.5mm_EP1.5x1.5mm
pins: 1 A0 (in), 2 A1 (in), 3 A2 (in), 4 IO0 (io), 5 IO1 (io), 6 VSS (power), 7 IO2 (io), 8 IO3 (io), 9 IO4 (io), 10 IO5 (io), 11 IO6 (io), 12 IO7 (io), 13 ~{{RESET}} (in), 14 VDD (power), 15 SCL (in), 16 SDA (io)

## PCA9557D
designator *  value PCA9557D
ki_keywords: SMBUS I2C Expander; ki_description: 8-bit I2C-bus and SMBus I/O port with reset, SO-16; ki_fp_filters: SO*3.9x9.9mm*P1.27mm*; Footprint: Package_SO:SO-16_3.9x9.9mm_P1.27mm; Supplier: https://www.nxp.com/docs/en/data-sheet/PCA9557.pdf
footprint SO-16_3.9x9.9mm_P1.27mm
pins: 1 SCL (in), 2 SDA (io), 3 A0 (in), 4 A1 (in), 5 A2 (in), 6 IO0 (io), 7 IO1 (io), 8 VSS (power), 9 IO2 (io), 10 IO3 (io), 11 IO4 (io), 12 IO5 (io), 13 IO6 (io), 14 IO7 (io), 15 ~{{RESET}} (in), 16 VDD (power)

## PCA9557PW
designator *  value PCA9557PW
ki_keywords: SMBUS I2C Expander; ki_description: 8-bit I2C-bus and SMBus I/O port with reset, TSSOP-16; ki_fp_filters: TSSOP*4.4x5mm*P0.65mm*; Footprint: Package_SO:TSSOP-16_4.4x5mm_P0.65mm; Supplier: https://www.nxp.com/docs/en/data-sheet/PCA9557.pdf
footprint TSSOP-16_4.4x5mm_P0.65mm
pins: 1 SCL (in), 2 SDA (io), 3 A0 (in), 4 A1 (in), 5 A2 (in), 6 IO0 (io), 7 IO1 (io), 8 VSS (power), 9 IO2 (io), 10 IO3 (io), 11 IO4 (io), 12 IO5 (io), 13 IO6 (io), 14 IO7 (io), 15 ~{{RESET}} (in), 16 VDD (power)

## PCAL6416APW
designator *  value PCAL6416APW
ki_keywords: I2C TWI IO expander; ki_description: IO expander 16 GPIO, I2C 400kHz, Interrupt, 1.65 - 5.5V, TSSOP-24; ki_fp_filters: TSSOP*4.4x7.8mm*P0.65mm*; Footprint: Package_SO:TSSOP-24_4.4x7.8mm_P0.65mm; Supplier: https://www.nxp.com/docs/en/data-sheet/PCAL6416A.pdf
footprint TSSOP-24_4.4x7.8mm_P0.65mm
pins: 1 ~{{INT}} (oc), 2 VDD_I2C (power), 3 ~{{RESET}} (in), 4 P0_0 (io), 5 P0_1 (io), 6 P0_2 (io), 7 P0_3 (io), 8 P0_4 (io), 9 P0_5 (io), 10 P0_6 (io), 11 P0_7 (io), 12 VSS (power), 13 P1_0 (io), 14 P1_1 (io), 15 P1_2 (io), 16 P1_3 (io), 17 P1_4 (io), 18 P1_5 (io), 19 P1_6 (io), 20 P1_7 (io), 21 ADDR (in), 22 SCL (in), 23 SDA (io), 24 VDD_P (power)

## PCF8574
designator *  value PCF8574
ki_keywords: I2C Expander; ki_description: 8 Bit Port/Expander to I2C Bus, DIP/SOIC-16; ki_fp_filters: DIP*W7.62mm* SOIC*7.5x10.3mm*P1.27mm*; Supplier: http://www.nxp.com/documents/data_sheet/PCF8574_PCF8574A.pdf
pins: 1 A0 (in), 2 A1 (in), 3 A2 (in), 4 P0 (io), 5 P1 (io), 6 P2 (io), 7 P3 (io), 8 VSS (power), 9 P4 (io), 10 P5 (io), 11 P6 (io), 12 P7 (io), 13 ~{{INT}} (oc), 14 SCL (in), 15 SDA (io), 16 VDD (power)

## PCF8574A
designator *  value PCF8574A
ki_keywords: I2C Expander; ki_description: 8 Bit Port/Expander to I2C Bus, DIP/SOIC-16; ki_fp_filters: DIP*W7.62mm* SOIC*7.5x10.3mm*P1.27mm*; Supplier: http://www.nxp.com/documents/data_sheet/PCF8574_PCF8574A.pdf
pins: 1 A0 (in), 2 A1 (in), 3 A2 (in), 4 P0 (io), 5 P1 (io), 6 P2 (io), 7 P3 (io), 8 VSS (power), 9 P4 (io), 10 P5 (io), 11 P6 (io), 12 P7 (io), 13 ~{{INT}} (oc), 14 SCL (in), 15 SDA (io), 16 VDD (power)

## PCF8574ATS
designator *  value PCF8574ATS
ki_keywords: I2C Expander; ki_description: 8 Bit Port/Expander to I2C Bus, SSOP-20; ki_fp_filters: SSOP*4.4x6.5mm*P0.65mm*; Footprint: Package_SO:SSOP-20_4.4x6.5mm_P0.65mm; Supplier: http://www.nxp.com/documents/data_sheet/PCF8574_PCF8574A.pdf
footprint SSOP-20_4.4x6.5mm_P0.65mm
pins: 1 ~{{INT}} (oc), 2 SCL (in), 3 NC (in) hidden, 4 SDA (io), 5 VDD (power), 6 A0 (in), 7 A1 (in), 8 NC (in) hidden, 9 A2 (in), 10 P0 (io), 11 P1 (io), 12 P2 (io), 13 NC (in) hidden, 14 P3 (io), 15 VSS (power), 16 P4 (io), 17 P5 (io), 18 NC (in) hidden, 19 P6 (io), 20 P7 (io)

## PCF8574TS
designator *  value PCF8574TS
ki_keywords: I2C Expander; ki_description: 8 Bit Port/Expander to I2C Bus, SSOP-20; ki_fp_filters: SSOP*4.4x6.5mm*P0.65mm*; Footprint: Package_SO:SSOP-20_4.4x6.5mm_P0.65mm; Supplier: http://www.nxp.com/documents/data_sheet/PCF8574_PCF8574A.pdf
footprint SSOP-20_4.4x6.5mm_P0.65mm
pins: 1 ~{{INT}} (oc), 2 SCL (in), 3 NC (in) hidden, 4 SDA (io), 5 VDD (power), 6 A0 (in), 7 A1 (in), 8 NC (in) hidden, 9 A2 (in), 10 P0 (io), 11 P1 (io), 12 P2 (io), 13 NC (in) hidden, 14 P3 (io), 15 VSS (power), 16 P4 (io), 17 P5 (io), 18 NC (in) hidden, 19 P6 (io), 20 P7 (io)

## PCF8584
designator *  value PCF8584
ki_keywords: I2C Bus; ki_description: I2C Bus Controller, DIP/SOIC-20; ki_fp_filters: DIP* PDIP* SO* SOIC*; Supplier: http://www.nxp.com/documents/data_sheet/PCF8584.pdf
pins: 1 CLK (in), 2 SDA (io), 3 SCL (io), 4 ~{{IACK}} (in), 5 ~{{INT}} (out), 6 A0 (in), 7 D0 (hiz), 8 D1 (hiz), 9 D2 (hiz), 10 VSS (power), 11 D3 (hiz), 12 D4 (hiz), 13 D5 (hiz), 14 D6 (hiz), 15 D7 (hiz), 16 ~{{RD}}, 17 ~{{CS}} (in), 18 ~{{WR}} (in), 19 ~{{RST}} (io), 20 VDD (power)

## PCF8591
designator *  value PCF8591
ki_keywords: I2C ADC DAC; ki_description: 4ch ADC, 1 DAC, I2C Bus Interface, DIP/SOIC-16; ki_fp_filters: DIP* PDIP* SO* SOIC*; Supplier: http://www.nxp.com/documents/data_sheet/PCF8591.pdf
pins: 1 AIN0, 2 AIN1, 3 AIN2, 4 AIN3, 5 A0 (in), 6 A1 (in), 7 A2 (in), 8 VSS (power), 9 SDA (io), 10 SCL (in), 11 OSC (io), 12 EXT (in), 13 AGND (power), 14 VREF, 15 AOUT, 16 VDD (power)

## STMPE1600
designator *  value STMPE1600
ki_keywords: IO expander 16 GPIO; ki_description: IO expander 16 GPIO, I2C 400kHz, Interrupt, 1.65 - 3.6V, QFN-24; ki_fp_filters: QFN*1EP*4x4mm*P0.5mm*; Footprint: Package_DFN_QFN:QFN-24-1EP_4x4mm_P0.5mm_EP2.6x2.6mm; Supplier: http://www.st.com/resource/en/datasheet/stmpe1600.pdf
footprint QFN-24-1EP_4x4mm_P0.5mm_EP2.6x2.6mm
pins: 1 GPIO_0 (io), 2 GPIO_1 (io), 3 GPIO_2 (io), 4 GPIO_3 (io), 5 GPIO_4 (io), 6 GPIO_5 (io), 7 GPIO_6 (io), 8 GPIO_7 (io), 9 GND (power), 10 GPIO_8 (io), 11 GPIO_9 (io), 12 GPIO_10 (io), 13 GPIO_11 (io), 14 GPIO_12 (io), 15 GPIO_13 (io), 16 GPIO_14 (io), 17 GPIO_15 (io), 18 A0 (in), 19 SCL (in), 20 SDA (io), 21 VCC (power), 22 INT (out), 23 A1 (in), 24 A2 (in)

## TCA9534
designator *  value TCA9534
ki_keywords: SMBUS I2C Expander; ki_description: 8 Bit Port/Expander, I2C SMBUS, Interrupt output, TSSOP-16, SOIC-16; ki_fp_filters: TSSOP*4.4x5mm*P0.65mm* SOIC*7.5x10.3mm*P1.27mm*; Supplier: http://www.ti.com/lit/ds/symlink/tca9534.pdf
pins: 1 A0 (in), 2 A1 (in), 3 A2 (in), 4 P0 (io), 5 P1 (io), 6 P2 (io), 7 P3 (io), 8 GND (power), 9 P4 (io), 10 P5 (io), 11 P6 (io), 12 P7 (io), 13 ~{{INT}} (oc), 14 SCL (in), 15 SDA (io), 16 VDD (power)

## TCA9535DBR
designator *  value TCA9535DBR
ki_keywords: ti parallel port; ki_description: 16-bit I/O expander, I2C and SMBus interface, interrupts, w/o pull-ups, SSOP-24; ki_fp_filters: SSOP*5.3x8.2mm*P0.65mm*; Footprint: Package_SO:SSOP-24_5.3x8.2mm_P0.65mm; Supplier: http://www.ti.com/lit/ds/symlink/tca9535.pdf
footprint SSOP-24_5.3x8.2mm_P0.65mm
pins: 1 ~{{INT}} (oc), 2 A1 (in), 3 A2 (in), 4 P00 (io), 5 P01 (io), 6 P02 (io), 7 P03 (io), 8 P04 (io), 9 P05 (io), 10 P06 (io), 11 P07 (io), 12 GND (power), 13 P10 (io), 14 P11 (io), 15 P12 (io), 16 P13 (io), 17 P14 (io), 18 P15 (io), 19 P16 (io), 20 P17 (io), 21 A0 (in), 22 SCL (in), 23 SDA (io), 24 VCC (power)

## TCA9535DBT
designator *  value TCA9535DBT
ki_keywords: ti parallel port; ki_description: 16-bit I/O expander, I2C and SMBus interface, interrupts, w/o pull-ups, SSOP-24; ki_fp_filters: SSOP*5.3x8.2mm*P0.65mm*; Footprint: Package_SO:SSOP-24_5.3x8.2mm_P0.65mm; Supplier: http://www.ti.com/lit/ds/symlink/tca9535.pdf
footprint SSOP-24_5.3x8.2mm_P0.65mm
pins: 1 ~{{INT}} (oc), 2 A1 (in), 3 A2 (in), 4 P00 (io), 5 P01 (io), 6 P02 (io), 7 P03 (io), 8 P04 (io), 9 P05 (io), 10 P06 (io), 11 P07 (io), 12 GND (power), 13 P10 (io), 14 P11 (io), 15 P12 (io), 16 P13 (io), 17 P14 (io), 18 P15 (io), 19 P16 (io), 20 P17 (io), 21 A0 (in), 22 SCL (in), 23 SDA (io), 24 VCC (power)

## TCA9535MRGER
designator *  value TCA9535MRGER
ki_keywords: ti parallel port; ki_description: 16-bit I/O expander, I2C and SMBus interface, interrupts, w/o pull-ups, QFN-24; ki_fp_filters: VQFN*1EP*4x4mm*P0.5mm*; Footprint: Package_DFN_QFN:VQFN-24-1EP_4x4mm_P0.5mm_EP2.45x2.45mm; Supplier: http://www.ti.com/lit/ds/symlink/tca9535.pdf
footprint VQFN-24-1EP_4x4mm_P0.5mm_EP2.45x2.45mm
pins: 1 P00 (io), 2 P01 (io), 3 P02 (io), 4 P03 (io), 5 P04 (io), 6 P05 (io), 7 P06 (io), 8 P07 (io), 9 GND (power), 10 P10 (io), 11 P11 (io), 12 P12 (io), 13 P13 (io), 14 P14 (io), 15 P15 (io), 16 P16 (io), 17 P17 (io), 18 A0 (in), 19 SCL (in), 20 SDA (io), 21 VCC (power), 22 ~{{INT}} (oc), 23 A1 (in), 24 A2 (in), 25 EPAD (in)

## TCA9535PWR
designator *  value TCA9535PWR
ki_keywords: ti parallel port; ki_description: 16-bit I/O expander, I2C and SMBus interface, interrupts, w/o pull-ups, TSSOP-24 package; ki_fp_filters: TSSOP*4.4x7.8mm*P0.65mm*; Footprint: Package_SO:TSSOP-24_4.4x7.8mm_P0.65mm; Supplier: http://www.ti.com/lit/ds/symlink/tca9535.pdf
footprint TSSOP-24_4.4x7.8mm_P0.65mm
pins: 1 ~{{INT}} (oc), 2 A1 (in), 3 A2 (in), 4 P00 (io), 5 P01 (io), 6 P02 (io), 7 P03 (io), 8 P04 (io), 9 P05 (io), 10 P06 (io), 11 P07 (io), 12 GND (power), 13 P10 (io), 14 P11 (io), 15 P12 (io), 16 P13 (io), 17 P14 (io), 18 P15 (io), 19 P16 (io), 20 P17 (io), 21 A0 (in), 22 SCL (in), 23 SDA (io), 24 VCC (power)

## TCA9535RGER
designator *  value TCA9535RGER
ki_keywords: ti parallel port; ki_description: 16-bit I/O expander, I2C and SMBus interface, interrupts, w/o pull-ups, QFN-24; ki_fp_filters: VQFN*1EP*4x4mm*P0.5mm*; Footprint: Package_DFN_QFN:VQFN-24-1EP_4x4mm_P0.5mm_EP2.45x2.45mm; Supplier: http://www.ti.com/lit/ds/symlink/tca9535.pdf
footprint VQFN-24-1EP_4x4mm_P0.5mm_EP2.45x2.45mm
pins: 1 P00 (io), 2 P01 (io), 3 P02 (io), 4 P03 (io), 5 P04 (io), 6 P05 (io), 7 P06 (io), 8 P07 (io), 9 GND (power), 10 P10 (io), 11 P11 (io), 12 P12 (io), 13 P13 (io), 14 P14 (io), 15 P15 (io), 16 P16 (io), 17 P17 (io), 18 A0 (in), 19 SCL (in), 20 SDA (io), 21 VCC (power), 22 ~{{INT}} (oc), 23 A1 (in), 24 A2 (in), 25 EPAD (in)

## TCA9535RTWR
designator *  value TCA9535RTWR
ki_keywords: ti parallel port; ki_description: 16-bit I/O expander, I2C and SMBus interface, interrupts, w/o pull-ups, QFN-24; ki_fp_filters: WQFN*1EP*4x4mm*P0.5mm*; Footprint: Package_DFN_QFN:WQFN-24-1EP_4x4mm_P0.5mm_EP2.45x2.45mm; Supplier: http://www.ti.com/lit/ds/symlink/tca9535.pdf
footprint WQFN-24-1EP_4x4mm_P0.5mm_EP2.45x2.45mm
pins: 1 P00 (io), 2 P01 (io), 3 P02 (io), 4 P03 (io), 5 P04 (io), 6 P05 (io), 7 P06 (io), 8 P07 (io), 9 GND (power), 10 P10 (io), 11 P11 (io), 12 P12 (io), 13 P13 (io), 14 P14 (io), 15 P15 (io), 16 P16 (io), 17 P17 (io), 18 A0 (in), 19 SCL (in), 20 SDA (io), 21 VCC (power), 22 ~{{INT}} (oc), 23 A1 (in), 24 A2 (in), 25 EPAD (in)

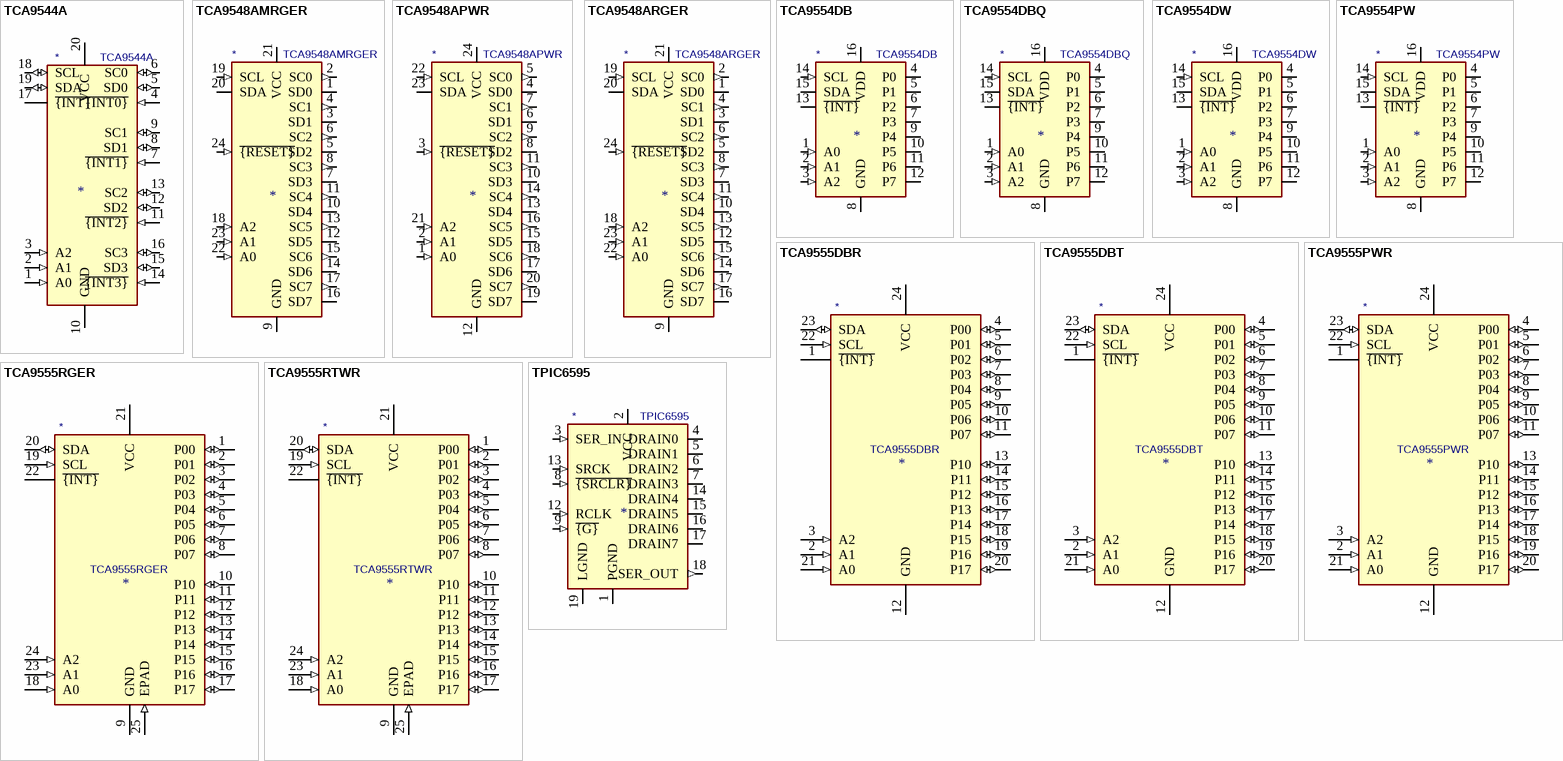
[diagram p2: symbols TCA9544A to TPIC6595]

## TCA9544A
designator *  value TCA9544A
ki_keywords: I2C Hub; ki_description: I2C Hub, 4 Channels, Interrupts, TSSOP-20; ki_fp_filters: TSSOP*4.4x6.5mm*P0.65mm*; Footprint: Package_SO:TSSOP-20_4.4x6.5mm_P0.65mm; Supplier: http://www.ti.com/lit/ds/symlink/tca9544a.pdf
footprint TSSOP-20_4.4x6.5mm_P0.65mm
pins: 1 A0 (in), 2 A1 (in), 3 A2 (in), 4 ~{{INT0}} (in), 5 SD0 (io), 6 SC0 (io), 7 ~{{INT1}} (in), 8 SD1 (io), 9 SC1 (io), 10 GND (power), 11 ~{{INT2}} (in), 12 SD2 (io), 13 SC2 (io), 14 ~{{INT3}} (in), 15 SD3 (io), 16 SC3 (io), 17 ~{{INT}} (oc), 18 SCL (io), 19 SDA (io), 20 VCC (power)

## TCA9548AMRGER
designator *  value TCA9548AMRGER
ki_keywords: Low voltage 8-channel I2C switch with reset; ki_description: Low voltage 8-channel I2C switch with reset, VQFN-24; ki_fp_filters: Texas*RGE0024C*; Footprint: Package_DFN_QFN:Texas_RGE0024C_EP2.1x2.1mm; Supplier: http://www.ti.com/lit/ds/symlink/tca9548a.pdf
footprint Texas_RGE0024C_EP2.1x2.1mm
pins: 1 SD0 (io), 2 SC0 (out), 3 SD1 (io), 4 SC1 (out), 5 SD2 (io), 6 SC2 (out), 7 SD3 (io), 8 SC3 (out), 9 GND (power), 10 SD4 (io), 11 SC4 (out), 12 SD5 (io), 13 SC5 (out), 14 SD6 (io), 15 SC6 (out), 16 SD7 (io), 17 SC7 (out), 18 A2 (in), 19 SCL (in), 20 SDA (io), 21 VCC (power), 22 A0 (in), 23 A1 (in), 24 ~{{RESET}} (in), 25 1EP (in) hidden

## TCA9548APWR
designator *  value TCA9548APWR
ki_keywords: Low voltage 8-channel I2C switch with reset; ki_description: Low voltage 8-channel I2C switch with reset, TSSOP-24; ki_fp_filters: TSSOP*4.4x7.8mm*P0.65mm*; Footprint: Package_SO:TSSOP-24_4.4x7.8mm_P0.65mm; Supplier: http://www.ti.com/lit/ds/symlink/tca9548a.pdf
footprint TSSOP-24_4.4x7.8mm_P0.65mm
pins: 1 A0 (in), 2 A1 (in), 3 ~{{RESET}} (in), 4 SD0 (io), 5 SC0 (out), 6 SD1 (io), 7 SC1 (out), 8 SD2 (io), 9 SC2 (out), 10 SD3 (io), 11 SC3 (out), 12 GND (power), 13 SD4 (io), 14 SC4 (out), 15 SD5 (io), 16 SC5 (out), 17 SD6 (io), 18 SC6 (out), 19 SD7 (io), 20 SC7 (out), 21 A2 (in), 22 SCL (in), 23 SDA (io), 24 VCC (power)

## TCA9548ARGER
designator *  value TCA9548ARGER
ki_keywords: Low voltage 8-channel I2C switch with reset; ki_description: Low voltage 8-channel I2C switch with reset, QFN-24; ki_fp_filters: Texas*RGE0024C*; Footprint: Package_DFN_QFN:Texas_RGE0024C_EP2.1x2.1mm; Supplier: http://www.ti.com/lit/ds/symlink/tca9548a.pdf
footprint Texas_RGE0024C_EP2.1x2.1mm
pins: 1 SD0 (io), 2 SC0 (out), 3 SD1 (io), 4 SC1 (out), 5 SD2 (io), 6 SC2 (out), 7 SD3 (io), 8 SC3 (out), 9 GND (power), 10 SD4 (io), 11 SC4 (out), 12 SD5 (io), 13 SC5 (out), 14 SD6 (io), 15 SC6 (out), 16 SD7 (io), 17 SC7 (out), 18 A2 (in), 19 SCL (in), 20 SDA (io), 21 VCC (power), 22 A0 (in), 23 A1 (in), 24 ~{{RESET}} (in), 25 1EP (in) hidden

## TCA9554DB
designator *  value TCA9554DB
ki_keywords: SMBUS I2C Expander; ki_description: 8 Bit Port/Expander, I2C SMBUS, Interrupt output, SSOP-16; ki_fp_filters: SSOP*5.3x6.2mm*P0.65mm*; Footprint: Package_SO:SSOP-16_5.3x6.2mm_P0.65mm; Supplier: http://www.ti.com/lit/ds/symlink/tca9554.pdf
footprint SSOP-16_5.3x6.2mm_P0.65mm
pins: 1 A0 (in), 2 A1 (in), 3 A2 (in), 4 P0 (io), 5 P1 (io), 6 P2 (io), 7 P3 (io), 8 GND (power), 9 P4 (io), 10 P5 (io), 11 P6 (io), 12 P7 (io), 13 ~{{INT}} (oc), 14 SCL (in), 15 SDA (io), 16 VDD (power)

## TCA9554DBQ
designator *  value TCA9554DBQ
ki_keywords: SMBUS I2C Expander; ki_description: 8 Bit Port/Expander, I2C SMBUS, Interrupt output, SSOP-16; ki_fp_filters: SSOP*3.9x4.9mm*P0.635mm*; Footprint: Package_SO:SSOP-16_3.9x4.9mm_P0.635mm; Supplier: http://www.ti.com/lit/ds/symlink/tca9554.pdf
footprint SSOP-16_3.9x4.9mm_P0.635mm
pins: 1 A0 (in), 2 A1 (in), 3 A2 (in), 4 P0 (io), 5 P1 (io), 6 P2 (io), 7 P3 (io), 8 GND (power), 9 P4 (io), 10 P5 (io), 11 P6 (io), 12 P7 (io), 13 ~{{INT}} (oc), 14 SCL (in), 15 SDA (io), 16 VDD (power)

## TCA9554DW
designator *  value TCA9554DW
ki_keywords: SMBUS I2C Expander; ki_description: 8 Bit Port/Expander, I2C SMBUS, Interrupt output, SOIC-16; ki_fp_filters: SOIC*7.5x10.3mm*P1.27mm*; Footprint: Package_SO:SOIC-16W_7.5x10.3mm_P1.27mm; Supplier: http://www.ti.com/lit/ds/symlink/tca9554.pdf
footprint SOIC-16W_7.5x10.3mm_P1.27mm
pins: 1 A0 (in), 2 A1 (in), 3 A2 (in), 4 P0 (io), 5 P1 (io), 6 P2 (io), 7 P3 (io), 8 GND (power), 9 P4 (io), 10 P5 (io), 11 P6 (io), 12 P7 (io), 13 ~{{INT}} (oc), 14 SCL (in), 15 SDA (io), 16 VDD (power)

## TCA9554PW
designator *  value TCA9554PW
ki_keywords: SMBUS I2C Expander; ki_description: 8 Bit Port/Expander, I2C SMBUS, Interrupt output, TSSOP-16; ki_fp_filters: TSSOP*4.4x5mm*P0.65mm*; Footprint: Package_SO:TSSOP-16_4.4x5mm_P0.65mm; Supplier: http://www.ti.com/lit/ds/symlink/tca9554.pdf
footprint TSSOP-16_4.4x5mm_P0.65mm
pins: 1 A0 (in), 2 A1 (in), 3 A2 (in), 4 P0 (io), 5 P1 (io), 6 P2 (io), 7 P3 (io), 8 GND (power), 9 P4 (io), 10 P5 (io), 11 P6 (io), 12 P7 (io), 13 ~{{INT}} (oc), 14 SCL (in), 15 SDA (io), 16 VDD (power)

## TCA9555DBR
designator *  value TCA9555DBR
ki_keywords: ti parallel port; ki_description: 16-bit I/O expander, I2C and SMBus interface, interrupts, w/ pull-ups, SSOP-24; ki_fp_filters: SSOP*5.3x8.2mm*P0.65mm*; Footprint: Package_SO:SSOP-24_5.3x8.2mm_P0.65mm; Supplier: http://www.ti.com/lit/ds/symlink/tca9555.pdf
footprint SSOP-24_5.3x8.2mm_P0.65mm
pins: 1 ~{{INT}} (oc), 2 A1 (in), 3 A2 (in), 4 P00 (io), 5 P01 (io), 6 P02 (io), 7 P03 (io), 8 P04 (io), 9 P05 (io), 10 P06 (io), 11 P07 (io), 12 GND (power), 13 P10 (io), 14 P11 (io), 15 P12 (io), 16 P13 (io), 17 P14 (io), 18 P15 (io), 19 P16 (io), 20 P17 (io), 21 A0 (in), 22 SCL (in), 23 SDA (io), 24 VCC (power)

## TCA9555DBT
designator *  value TCA9555DBT
ki_keywords: ti parallel port; ki_description: 16-bit I/O expander, I2C and SMBus interface, interrupts, w/ pull-ups, SSOP-24; ki_fp_filters: SSOP*5.3x8.2mm*P0.65mm*; Footprint: Package_SO:SSOP-24_5.3x8.2mm_P0.65mm; Supplier: http://www.ti.com/lit/ds/symlink/tca9555.pdf
footprint SSOP-24_5.3x8.2mm_P0.65mm
pins: 1 ~{{INT}} (oc), 2 A1 (in), 3 A2 (in), 4 P00 (io), 5 P01 (io), 6 P02 (io), 7 P03 (io), 8 P04 (io), 9 P05 (io), 10 P06 (io), 11 P07 (io), 12 GND (power), 13 P10 (io), 14 P11 (io), 15 P12 (io), 16 P13 (io), 17 P14 (io), 18 P15 (io), 19 P16 (io), 20 P17 (io), 21 A0 (in), 22 SCL (in), 23 SDA (io), 24 VCC (power)

## TCA9555PWR
designator *  value TCA9555PWR
ki_keywords: ti parallel port; ki_description: 16-bit I/O expander, I2C and SMBus interface, interrupts, w/ pull-ups, TSSOP-24 package; ki_fp_filters: TSSOP*4.4x7.8mm*P0.65mm*; Footprint: Package_SO:TSSOP-24_4.4x7.8mm_P0.65mm; Supplier: http://www.ti.com/lit/ds/symlink/tca9555.pdf
footprint TSSOP-24_4.4x7.8mm_P0.65mm
pins: 1 ~{{INT}} (oc), 2 A1 (in), 3 A2 (in), 4 P00 (io), 5 P01 (io), 6 P02 (io), 7 P03 (io), 8 P04 (io), 9 P05 (io), 10 P06 (io), 11 P07 (io), 12 GND (power), 13 P10 (io), 14 P11 (io), 15 P12 (io), 16 P13 (io), 17 P14 (io), 18 P15 (io), 19 P16 (io), 20 P17 (io), 21 A0 (in), 22 SCL (in), 23 SDA (io), 24 VCC (power)

## TCA9555RGER
designator *  value TCA9555RGER
ki_keywords: ti parallel port; ki_description: 16-bit I/O expander, I2C and SMBus interface, interrupts, w/ pull-ups, QFN-24; ki_fp_filters: VQFN*1EP*4x4mm*P0.5mm*; Footprint: Package_DFN_QFN:VQFN-24-1EP_4x4mm_P0.5mm_EP2.45x2.45mm; Supplier: http://www.ti.com/lit/ds/symlink/tca9555.pdf
footprint VQFN-24-1EP_4x4mm_P0.5mm_EP2.45x2.45mm
pins: 1 P00 (io), 2 P01 (io), 3 P02 (io), 4 P03 (io), 5 P04 (io), 6 P05 (io), 7 P06 (io), 8 P07 (io), 9 GND (power), 10 P10 (io), 11 P11 (io), 12 P12 (io), 13 P13 (io), 14 P14 (io), 15 P15 (io), 16 P16 (io), 17 P17 (io), 18 A0 (in), 19 SCL (in), 20 SDA (io), 21 VCC (power), 22 ~{{INT}} (oc), 23 A1 (in), 24 A2 (in), 25 EPAD (in)

## TCA9555RTWR
designator *  value TCA9555RTWR
ki_keywords: ti parallel port; ki_description: 16-bit I/O expander, I2C and SMBus interface, interrupts, w/ pull-ups, QFN-24; ki_fp_filters: WQFN*1EP*4x4mm*P0.5mm*; Footprint: Package_DFN_QFN:WQFN-24-1EP_4x4mm_P0.5mm_EP2.45x2.45mm; Supplier: http://www.ti.com/lit/ds/symlink/tca9555.pdf
footprint WQFN-24-1EP_4x4mm_P0.5mm_EP2.45x2.45mm
pins: 1 P00 (io), 2 P01 (io), 3 P02 (io), 4 P03 (io), 5 P04 (io), 6 P05 (io), 7 P06 (io), 8 P07 (io), 9 GND (power), 10 P10 (io), 11 P11 (io), 12 P12 (io), 13 P13 (io), 14 P14 (io), 15 P15 (io), 16 P16 (io), 17 P17 (io), 18 A0 (in), 19 SCL (in), 20 SDA (io), 21 VCC (power), 22 ~{{INT}} (oc), 23 A1 (in), 24 A2 (in), 25 EPAD (in)

## TPIC6595
designator *  value TPIC6595
ki_keywords: shift register 8bit; ki_description: Power Logic 8-bit Shift Register, DIP-8/SOIC-8; ki_fp_filters: SOIC*7.5x12.8mm*P1.27mm* DIP*W7.62mm*; Supplier: http://www.ti.com/lit/ds/symlink/tpic6595.pdf
pins: 1 PGND (power), 2 VCC (power), 3 SER_IN (in), 4 DRAIN0 (oc), 5 DRAIN1 (oc), 6 DRAIN2 (oc), 7 DRAIN3 (oc), 8 ~{{SRCLR}} (in), 9 ~{{G}} (in), 10 PGND hidden, 11 PGND hidden, 12 RCLK (in), 13 SRCK (in), 14 DRAIN4 (oc), 15 DRAIN5 (oc), 16 DRAIN6 (oc), 17 DRAIN7 (oc), 18 SER_OUT (out), 19 LGND (power), 20 PGND hidden